# Altium integrated library RC0603FR-0725R5L.IntLib: 3 symbols
Pins are listed as number, name and electrical type; pins without a type are passive.

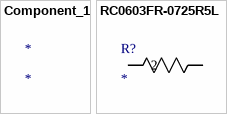
[diagram p0: symbols Component_1 to RC0603FR-0725R5L]

## Component_1
designator *

## RC0603FR-0725R5L
designator R?
No Description Available; Mfr_Name: Yageo
footprint RC0603N_YAG
pins: 1, 2


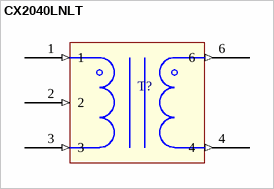
[diagram p1: symbol CX2040LNLT]

## CX2040LNLT
designator T?
BALUN 1MHZ-500MHZ 75/75 5SMD MOD; Manufacturer Part: CX2040LNLT; Manufacturer: Pulse Electronics; Transformer Type: RF and Wireless Balun; Frequency Range: 1MHz ~ 500MHz; Insertion Loss (Max): 0.9dB; Length: 3.81mm; Depth: 3.81mm; RoHS Compliant: Yes; Package: 5-SMD Module; Mounting Type: Surface Mount; Max Operating Temperature: 85 °C; Min Operating Temperature: -40 °C; Number of Pins: 5
footprint CX2040LNLT (RF AND WIRELESS BALUN TRANSFORMER)
pins: 1 (in), 2 (in), 3 (in), 4 (out), 6 (out)